# Altium footprint library 1N4148W.PcbLib: 2 footprints
Each footprint in its own frame and in the unit in brackets; x right, y up, seen from the top. Pads: shape width x height; smd on the part's side, far side on the other; paste and mask are expansions set on the pad; w line width, h text height; cw(c..) or ccw(c..) is an arc to the next point about the centre after c.
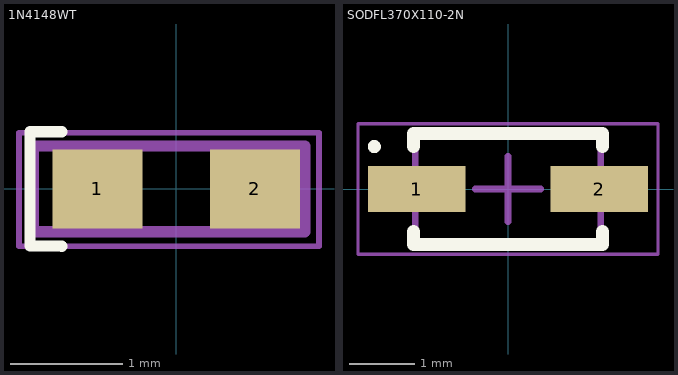
[diagram p0: the footprints below, top view; thin cyan lines are the x and y axes]

## 1N4148WT [mm]
pads (2):
  rect 0.8x0.7 smd: 1(-0.7,0) 2(0.7,0)
Top Overlay:
  lines w0.1: -1.016,-0.509 -1.3,-0.508 -1.3,0.508 -1.016,0.508
Mechanical 13:
  lines w0.1: -1.27,-0.381 1.143,-0.381 1.143,0.381 -1.27,0.381 -1.27,-0.381
Mechanical 15:
  lines w0.05: -1.397,-0.508 -1.397,0.5 1.27,0.5 1.27,-0.508 -1.397,-0.508

## SODFL370X110-2N [mm] "SODFL, 2-Leads, Body 1,55x3,70mm, IPC Medium Density"
height 1.1
pads (2):
  rect 1.5x0.7 smd: 1(-1.4,0) 2(1.4,0)
Top Overlay:
  circle w0.1: c-2.05,0.65 r0.05
  lines w0.2: -1.45,-0.65 -1.45,-0.85 1.45,-0.85 1.45,-0.65 ; -1.45,0.65 -1.45,0.85 1.45,0.85 1.45,0.65
Mechanical 13:
  lines w0.1: -1.425,-0.85 1.425,-0.85 1.425,0.85 -1.425,0.85 -1.425,-0.85
Mechanical 15:
  lines w0.05: -2.3,-1 2.3,-1 2.3,1 -2.3,1 -2.3,-1
  lines w0.1: -0.5,0 0.5,0 ; 0,-0.5 0,0.5
3D body "SODFL370X110-2N.step": height 1.1, standoff 0, extent -1.85,-0.85 1.85,0.85